# Altium schematic symbol library RF_GSM.SchLib: 12 symbols
Pins are listed as number, name and electrical type; pins without a type are passive.

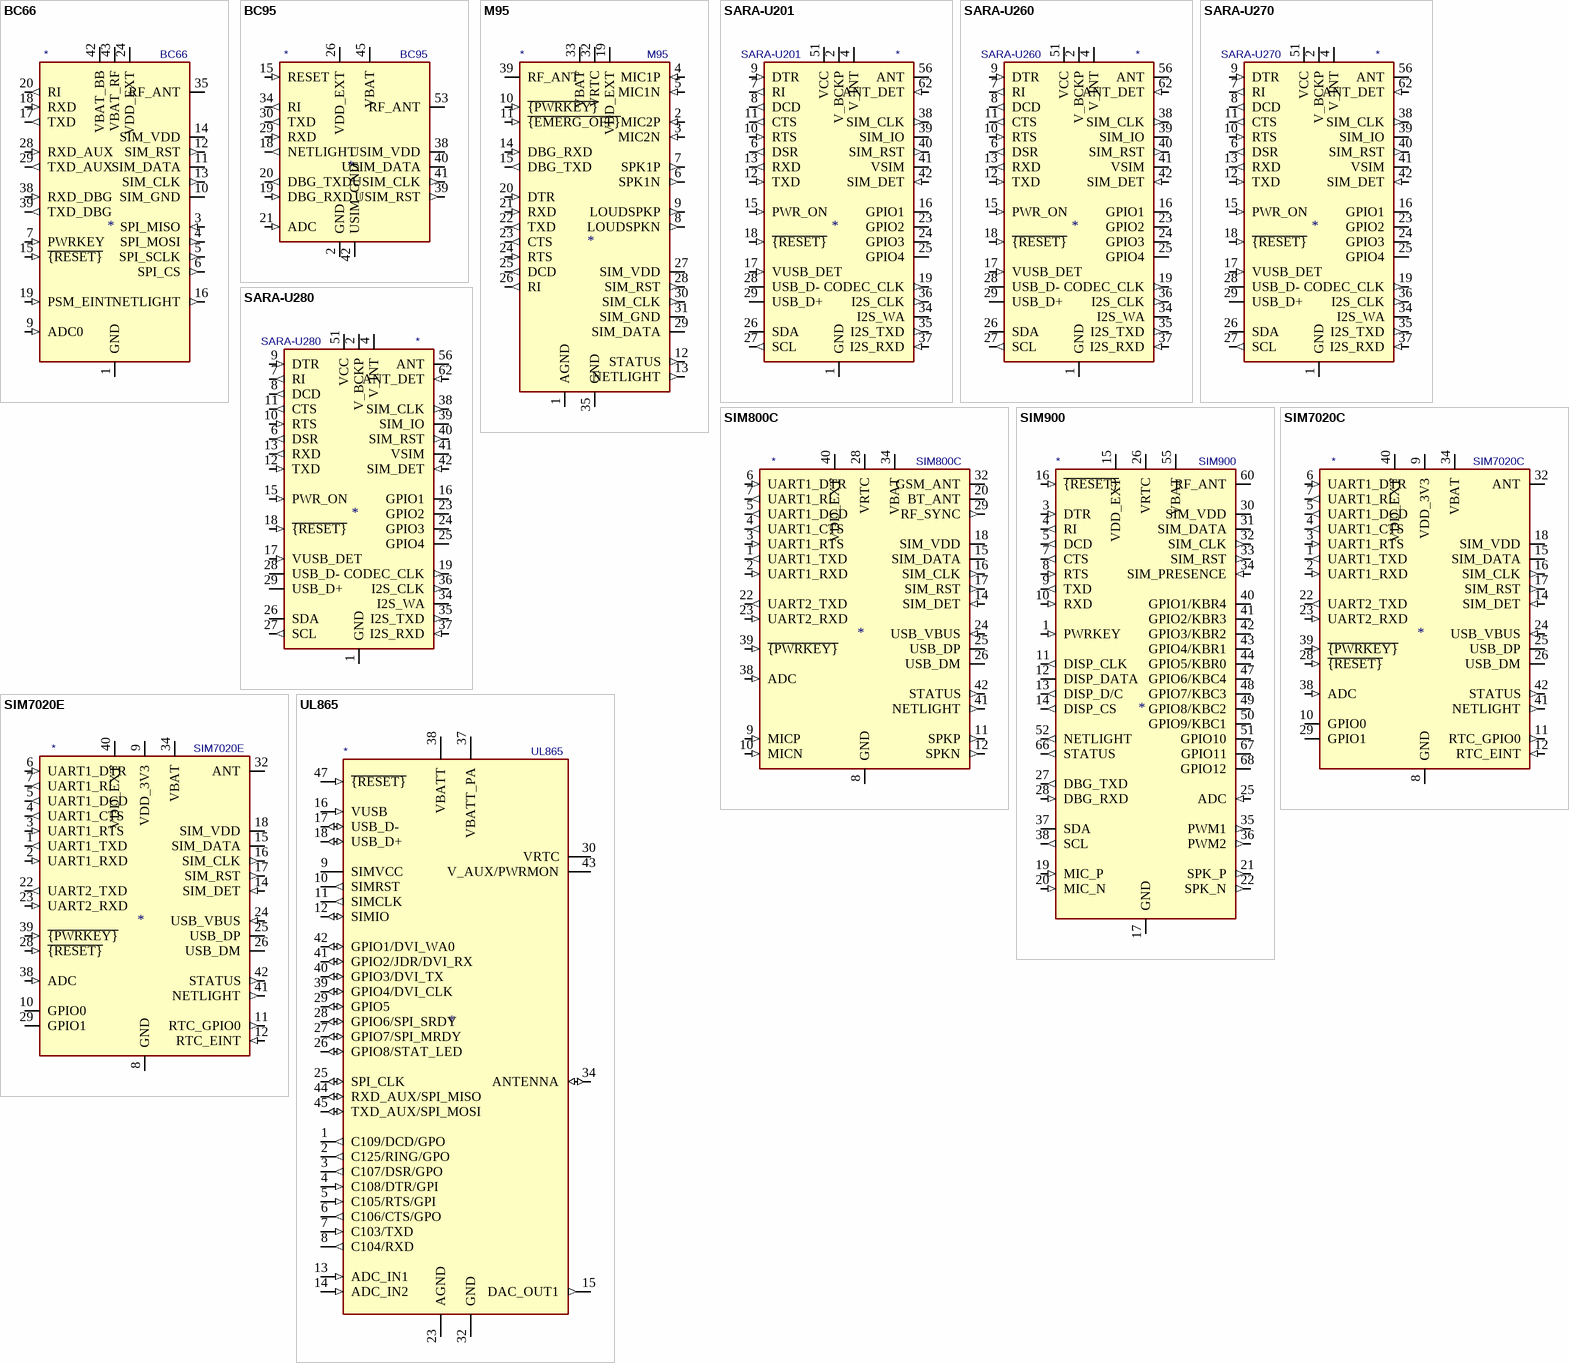
[diagram p0: symbols BC66 to UL865]

## BC66
designator *  value BC66
ki_keywords: NB-IoT Data SMS; ki_description: Quectel NB-IoT Global, AT Command Set; ki_fp_filters: Quectel*BC66*; Footprint: RF_GSM:Quectel_BC66; Supplier: https://www.quectel.com/UploadImage/Downlad/Quectel_BC66_Hardware_Design_V1.1.pdf
footprint Quectel_BC66
pins: 1 GND (power), 2 RESERVED (in) hidden, 3 SPI_MISO (in), 4 SPI_MOSI (out), 5 SPI_SCLK (out), 6 SPI_CS (out), 7 PWRKEY (in), 8 RESERVED (in) hidden, 9 ADC0 (in), 10 SIM_GND (power), 11 SIM_DATA (io), 12 SIM_RST (out), 13 SIM_CLK (out), 14 SIM_VDD (power), 15 ~{{RESET}} (in), 16 NETLIGHT (out), 17 TXD (out), 18 RXD (in), 19 PSM_EINT (in), 20 RI (out), 21 RESERVED (in) hidden, 22 RESERVED (in) hidden, 23 RESERVED (in) hidden, 24 VDD_EXT (power), 25 RESERVED (in) hidden, 26 RESERVED (in) hidden, 27 GND hidden, 28 RXD_AUX (in), 29 TXD_AUX (out), 30 RESERVED (in) hidden, 31 RESERVED (in) hidden, 32 RESERVED (in) hidden, 33 RESERVED (in) hidden, 34 GND hidden, 35 RF_ANT, 36 GND hidden, 37 GND hidden, 38 RXD_DBG (in), 39 TXD_DBG (out), 40 GND hidden, 41 GND hidden, 42 VBAT_BB (power), 43 VBAT_RF (power), 44 RESERVED (in) hidden, 45 RESERVED (in) hidden, 46 RESERVED (in) hidden, 47 RESERVED (in) hidden, 48 RESERVED (in) hidden, 49 RESERVED (in) hidden, 50 RESERVED (in) hidden, 51 RESERVED (in) hidden, 52 RESERVED (in) hidden, 53 RESERVED (in) hidden, 54 RESERVED (in) hidden, 55 RESERVED (in) hidden, 56 RESERVED (in) hidden, 57 RESERVED (in) hidden, 58 RESERVED (in) hidden

## BC95
designator *  value BC95
ki_keywords: NB-IoT GSM GPRS Quad-Band SMS; ki_description: NB-IoT, GSM Quad-Band Communication Module, GPRS, Audio Engine, AT Command Set; ki_fp_filters: Quectel?BC95*; Footprint: RF_GSM:Quectel_BC95; Supplier: https://www.quectel.com/UploadImage/Downlad/Quectel_BC95_Hardware_Design_V1.3.pdf
footprint Quectel_BC95
pins: 2 GND (power), 15 RESET (in), 18 NETLIGHT (out), 19 DBG_RXD (in), 20 DBG_TXD (out), 21 ADC (in), 26 VDD_EXT (power), 29 RXD (in), 30 TXD (out), 34 RI (out), 38 USIM_VDD (power), 39 USIM_RST (out), 40 USIM_DATA (io), 41 USIM_CLK (out), 42 USIM_GND (power), 43 GND hidden, 45 VBAT (power), 46 VBAT hidden, 47 GND hidden, 48 GND hidden, 51 GND hidden, 52 GND hidden, 53 RF_ANT, 54 GND hidden, 59 GND hidden, 60 GND hidden, 61 GND hidden, 62 GND hidden, 63 GND hidden, 64 GND hidden, 65 GND hidden, 66 GND hidden, 71 GND hidden, 72 GND hidden, 73 GND hidden, 74 GND hidden, 81 GND hidden, 82 GND hidden, 83 GND hidden, 92 GND hidden, 93 GND hidden, 94 GND hidden

## M95
designator *  value M95
ki_keywords: GSM GPRS AT SMS voice TCP/IP; ki_description: Quectel quad-band GSM/GPRS module in LCC package; ki_fp_filters: Quectel*M95*; Footprint: RF_GSM:Quectel_M95; Supplier: https://www.quectel.com/UploadImage/Downlad/M95_Hardware_Design_V1.3.pdf
footprint Quectel_M95
pins: 1 AGND (power), 2 MIC2P (in), 3 MIC2N (in), 4 MIC1P (in), 5 MIC1N (in), 6 SPK1N (out), 7 SPK1P (out), 8 LOUDSPKN (out), 9 LOUDSPKP (out), 10 ~{{PWRKEY}} (in), 11 ~{{EMERG_OFF}} (in), 12 STATUS (out), 13 NETLIGHT (out), 14 DBG_RXD (in), 15 DBG_TXD (out), 16 RESERVED (in) hidden, 17 RESERVED (in) hidden, 18 RESERVED (in) hidden, 19 VDD_EXT (power), 20 DTR (in), 21 RXD (in), 22 TXD (out), 23 CTS (out), 24 RTS (in), 25 DCD (out), 26 RI (out), 27 SIM_VDD (power), 28 SIM_RST (out), 29 SIM_DATA (io), 30 SIM_CLK (out), 31 SIM_GND (power), 32 VRTC (power), 33 VBAT (power), 34 VBAT hidden, 35 GND (power), 36 GND hidden, 37 GND hidden, 38 GND hidden, 39 RF_ANT, 40 GND hidden, 41 RESERVED (in) hidden, 42 RESERVED (in) hidden

## SARA-U201
designator *  value SARA-U201
ki_keywords: GSM HSPA 2G 3G; ki_description: Ublox HSPA GSM Quad-Band Communication Module, AT Command Set, AT Command Set, Worldwide , LGA-96; ki_fp_filters: ublox*SARA*; Footprint: RF_GSM:ublox_SARA-G3_LGA-96; Supplier: https://www.u-blox.com/sites/default/files/SARA-U2_DataSheet_(UBX-13005287).pdf
footprint ublox_SARA-G3_LGA-96
pins: 1 GND (power), 2 V_BCKP (power), 3 GND hidden, 4 V_INT (power), 5 GND hidden, 6 DSR (out), 7 RI (out), 8 DCD (out), 9 DTR (in), 10 RTS (in), 11 CTS (out), 12 TXD (in), 13 RXD (out), 14 GND hidden, 15 PWR_ON (in), 16 GPIO1 (io), 17 VUSB_DET (in), 18 ~{{RESET}} (in), 19 CODEC_CLK (out), 20 GND hidden, 21 GND hidden, 22 GND hidden, 23 GPIO2 (io), 24 GPIO3 (io), 25 GPIO4 (io), 26 SDA (io), 27 SCL (out), 28 USB_D- (io), 29 USB_D+ (io), 30 GND hidden, 31 RSVD (in) hidden, 32 GND hidden, 33 RSVD (in) hidden, 34 I2S_WA (io), 35 I2S_TXD (out), 36 I2S_CLK (out), 37 I2S_RXD (in), 38 SIM_CLK (out), 39 SIM_IO (io), 40 SIM_RST (out), 41 VSIM (power), 42 SIM_DET (in), 43 GND hidden, 44 RSVD (in) hidden, 45 RSVD (in) hidden, 46 RSVD (in) hidden, 47 RSVD (in) hidden, 48 RSVD (in) hidden, 49 RSVD (in) hidden, 50 GND hidden, 51 VCC (power), 52 VCC hidden, 53 VCC hidden, 54 GND hidden, 55 GND hidden, 56 ANT, 57 GND hidden, 58 GND hidden, 59 GND hidden, 60 GND hidden, 61 GND hidden, 62 ANT_DET (in), 63 GND hidden, 64 GND hidden, 65 GND hidden, 66 GND hidden, 67 GND hidden, 68 GND hidden, 69 GND hidden, 70 GND hidden, 71 GND hidden, 72 GND hidden, 73 GND hidden, 74 GND hidden, 75 GND hidden, 76 GND hidden, 77 GND hidden, 78 GND hidden, 79 GND hidden, 80 GND hidden, 81 GND hidden, 82 GND hidden, 83 GND hidden, 84 GND hidden, 85 GND hidden, 86 GND hidden, 87 GND hidden, 88 GND hidden, 89 GND hidden, 90 GND hidden, 91 GND hidden, 92 GND hidden, 93 GND hidden, 94 GND hidden, 95 GND hidden, 96 GND hidden

## SARA-U260
designator *  value SARA-U260
ki_keywords: GSM HSPA 2G 3G; ki_description: Ublox HSPA GSM Quad-Band Communication Module, AT Command Set, Designed for America, LGA-96; ki_fp_filters: ublox*SARA*; Footprint: RF_GSM:ublox_SARA-G3_LGA-96; Supplier: https://www.u-blox.com/sites/default/files/SARA-U2_DataSheet_(UBX-13005287).pdf
footprint ublox_SARA-G3_LGA-96
pins: 1 GND (power), 2 V_BCKP (power), 3 GND hidden, 4 V_INT (power), 5 GND hidden, 6 DSR (out), 7 RI (out), 8 DCD (out), 9 DTR (in), 10 RTS (in), 11 CTS (out), 12 TXD (in), 13 RXD (out), 14 GND hidden, 15 PWR_ON (in), 16 GPIO1 (io), 17 VUSB_DET (in), 18 ~{{RESET}} (in), 19 CODEC_CLK (out), 20 GND hidden, 21 GND hidden, 22 GND hidden, 23 GPIO2 (io), 24 GPIO3 (io), 25 GPIO4 (io), 26 SDA (io), 27 SCL (out), 28 USB_D- (io), 29 USB_D+ (io), 30 GND hidden, 31 RSVD (in) hidden, 32 GND hidden, 33 RSVD (in) hidden, 34 I2S_WA (io), 35 I2S_TXD (out), 36 I2S_CLK (out), 37 I2S_RXD (in), 38 SIM_CLK (out), 39 SIM_IO (io), 40 SIM_RST (out), 41 VSIM (power), 42 SIM_DET (in), 43 GND hidden, 44 RSVD (in) hidden, 45 RSVD (in) hidden, 46 RSVD (in) hidden, 47 RSVD (in) hidden, 48 RSVD (in) hidden, 49 RSVD (in) hidden, 50 GND hidden, 51 VCC (power), 52 VCC hidden, 53 VCC hidden, 54 GND hidden, 55 GND hidden, 56 ANT, 57 GND hidden, 58 GND hidden, 59 GND hidden, 60 GND hidden, 61 GND hidden, 62 ANT_DET (in), 63 GND hidden, 64 GND hidden, 65 GND hidden, 66 GND hidden, 67 GND hidden, 68 GND hidden, 69 GND hidden, 70 GND hidden, 71 GND hidden, 72 GND hidden, 73 GND hidden, 74 GND hidden, 75 GND hidden, 76 GND hidden, 77 GND hidden, 78 GND hidden, 79 GND hidden, 80 GND hidden, 81 GND hidden, 82 GND hidden, 83 GND hidden, 84 GND hidden, 85 GND hidden, 86 GND hidden, 87 GND hidden, 88 GND hidden, 89 GND hidden, 90 GND hidden, 91 GND hidden, 92 GND hidden, 93 GND hidden, 94 GND hidden, 95 GND hidden, 96 GND hidden

## SARA-U270
designator *  value SARA-U270
ki_keywords: GSM HSPA 2G 3G; ki_description: Ublox HSPA GSM Quad-Band Communication Module, AT Command Set, Designed for Europe, Asia and Others, LGA-96; ki_fp_filters: ublox*SARA*; Footprint: RF_GSM:ublox_SARA-G3_LGA-96; Supplier: https://www.u-blox.com/sites/default/files/SARA-U2_DataSheet_(UBX-13005287).pdf
footprint ublox_SARA-G3_LGA-96
pins: 1 GND (power), 2 V_BCKP (power), 3 GND hidden, 4 V_INT (power), 5 GND hidden, 6 DSR (out), 7 RI (out), 8 DCD (out), 9 DTR (in), 10 RTS (in), 11 CTS (out), 12 TXD (in), 13 RXD (out), 14 GND hidden, 15 PWR_ON (in), 16 GPIO1 (io), 17 VUSB_DET (in), 18 ~{{RESET}} (in), 19 CODEC_CLK (out), 20 GND hidden, 21 GND hidden, 22 GND hidden, 23 GPIO2 (io), 24 GPIO3 (io), 25 GPIO4 (io), 26 SDA (io), 27 SCL (out), 28 USB_D- (io), 29 USB_D+ (io), 30 GND hidden, 31 RSVD (in) hidden, 32 GND hidden, 33 RSVD (in) hidden, 34 I2S_WA (io), 35 I2S_TXD (out), 36 I2S_CLK (out), 37 I2S_RXD (in), 38 SIM_CLK (out), 39 SIM_IO (io), 40 SIM_RST (out), 41 VSIM (power), 42 SIM_DET (in), 43 GND hidden, 44 RSVD (in) hidden, 45 RSVD (in) hidden, 46 RSVD (in) hidden, 47 RSVD (in) hidden, 48 RSVD (in) hidden, 49 RSVD (in) hidden, 50 GND hidden, 51 VCC (power), 52 VCC hidden, 53 VCC hidden, 54 GND hidden, 55 GND hidden, 56 ANT, 57 GND hidden, 58 GND hidden, 59 GND hidden, 60 GND hidden, 61 GND hidden, 62 ANT_DET (in), 63 GND hidden, 64 GND hidden, 65 GND hidden, 66 GND hidden, 67 GND hidden, 68 GND hidden, 69 GND hidden, 70 GND hidden, 71 GND hidden, 72 GND hidden, 73 GND hidden, 74 GND hidden, 75 GND hidden, 76 GND hidden, 77 GND hidden, 78 GND hidden, 79 GND hidden, 80 GND hidden, 81 GND hidden, 82 GND hidden, 83 GND hidden, 84 GND hidden, 85 GND hidden, 86 GND hidden, 87 GND hidden, 88 GND hidden, 89 GND hidden, 90 GND hidden, 91 GND hidden, 92 GND hidden, 93 GND hidden, 94 GND hidden, 95 GND hidden, 96 GND hidden

## SARA-U280
designator *  value SARA-U280
ki_keywords: GSM HSPA 2G 3G; ki_description: Ublox HSPA GSM Quad-Band Communication Module, AT Command Set, Designed for America, LGA-96; ki_fp_filters: ublox*SARA*; Footprint: RF_GSM:ublox_SARA-G3_LGA-96; Supplier: https://www.u-blox.com/sites/default/files/SARA-U2_DataSheet_(UBX-13005287).pdf
footprint ublox_SARA-G3_LGA-96
pins: 1 GND (power), 2 V_BCKP (power), 3 GND hidden, 4 V_INT (power), 5 GND hidden, 6 DSR (out), 7 RI (out), 8 DCD (out), 9 DTR (in), 10 RTS (in), 11 CTS (out), 12 TXD (in), 13 RXD (out), 14 GND hidden, 15 PWR_ON (in), 16 GPIO1 (io), 17 VUSB_DET (in), 18 ~{{RESET}} (in), 19 CODEC_CLK (out), 20 GND hidden, 21 GND hidden, 22 GND hidden, 23 GPIO2 (io), 24 GPIO3 (io), 25 GPIO4 (io), 26 SDA (io), 27 SCL (out), 28 USB_D- (io), 29 USB_D+ (io), 30 GND hidden, 31 RSVD (in) hidden, 32 GND hidden, 33 RSVD (in) hidden, 34 I2S_WA (io), 35 I2S_TXD (out), 36 I2S_CLK (out), 37 I2S_RXD (in), 38 SIM_CLK (out), 39 SIM_IO (io), 40 SIM_RST (out), 41 VSIM (power), 42 SIM_DET (in), 43 GND hidden, 44 RSVD (in) hidden, 45 RSVD (in) hidden, 46 RSVD (in) hidden, 47 RSVD (in) hidden, 48 RSVD (in) hidden, 49 RSVD (in) hidden, 50 GND hidden, 51 VCC (power), 52 VCC hidden, 53 VCC hidden, 54 GND hidden, 55 GND hidden, 56 ANT, 57 GND hidden, 58 GND hidden, 59 GND hidden, 60 GND hidden, 61 GND hidden, 62 ANT_DET (in), 63 GND hidden, 64 GND hidden, 65 GND hidden, 66 GND hidden, 67 GND hidden, 68 GND hidden, 69 GND hidden, 70 GND hidden, 71 GND hidden, 72 GND hidden, 73 GND hidden, 74 GND hidden, 75 GND hidden, 76 GND hidden, 77 GND hidden, 78 GND hidden, 79 GND hidden, 80 GND hidden, 81 GND hidden, 82 GND hidden, 83 GND hidden, 84 GND hidden, 85 GND hidden, 86 GND hidden, 87 GND hidden, 88 GND hidden, 89 GND hidden, 90 GND hidden, 91 GND hidden, 92 GND hidden, 93 GND hidden, 94 GND hidden, 95 GND hidden, 96 GND hidden

## SIM800C
designator *  value SIM800C
ki_keywords: GSM GPRS Quad-Band SMS; ki_description: GSM Quad-Band Communication Module, GPRS, Audio Engine, AT Command Set, Bluetooth is Optional; ki_fp_filters: SIMCom*SIM800C*; Footprint: RF_GSM:SIMCom_SIM800C; Supplier: http://simcom.ee/documents/SIM800C/SIM800C_Hardware_Design_V1.05.pdf
footprint SIMCom_SIM800C
pins: 1 UART1_TXD (out), 2 UART1_RXD (in), 3 UART1_RTS (in), 4 UART1_CTS (out), 5 UART1_DCD (out), 6 UART1_DTR (in), 7 UART1_RI (out), 8 GND (power), 9 MICP (in), 10 MICN (in), 11 SPKP (out), 12 SPKN (out), 13 GND hidden, 14 SIM_DET (in), 15 SIM_DATA (io), 16 SIM_CLK (out), 17 SIM_RST (out), 18 SIM_VDD (power), 19 GND hidden, 20 BT_ANT, 21 GND hidden, 22 UART2_TXD (out), 23 UART2_RXD (in), 24 USB_VBUS (in), 25 USB_DP (io), 26 USB_DM (io), 27 GND hidden, 28 VRTC (power), 29 RF_SYNC (out), 30 GND hidden, 31 GND hidden, 32 GSM_ANT, 33 GND hidden, 34 VBAT (power), 35 VBAT hidden, 36 GND hidden, 37 GND hidden, 38 ADC (in), 39 ~{{PWRKEY}} (in), 40 VDD_EXT (power), 41 NETLIGHT (out), 42 STATUS (out)

## SIM900
designator *  value SIM900
ki_keywords: GSM GPRS Quad-Band SMS FAX; ki_description: GSM Quad-Band Communication Module, GPRS, Audio Engine, AT Command Set; ki_fp_filters: SIMCom*SIM900*; Footprint: RF_GSM:SIMCom_SIM900; Supplier: http://simcom.ee/documents/SIM900/SIM900_Hardware%20Design_V2.05.pdf
footprint SIMCom_SIM900
pins: 1 PWRKEY (in), 2 NC (in) hidden, 3 DTR (in), 4 RI (out), 5 DCD (out), 6 NC (in) hidden, 7 CTS (out), 8 RTS (in), 9 TXD (out), 10 RXD (in), 11 DISP_CLK (out), 12 DISP_DATA (io), 13 DISP_D/C (out), 14 DISP_CS (out), 15 VDD_EXT (power), 16 ~{{RESET}} (in), 17 GND (power), 18 GND hidden, 19 MIC_P (in), 20 MIC_N (in), 21 SPK_P (out), 22 SPK_N (out), 23 NC (in) hidden, 24 NC (in) hidden, 25 ADC (in), 26 VRTC (power), 27 DBG_TXD (out), 28 DBG_RXD (in), 29 GND hidden, 30 SIM_VDD (power), 31 SIM_DATA (io), 32 SIM_CLK (out), 33 SIM_RST (out), 34 SIM_PRESENCE (in), 35 PWM1 (out), 36 PWM2 (out), 37 SDA (io), 38 SCL (out), 39 GND hidden, 40 GPIO1/KBR4 (io), 41 GPIO2/KBR3 (io), 42 GPIO3/KBR2 (io), 43 GPIO4/KBR1 (io), 44 GPIO5/KBR0 (io), 45 GND hidden, 46 GND hidden, 47 GPIO6/KBC4 (io), 48 GPIO7/KBC3 (io), 49 GPIO8/KBC2 (io), 50 GPIO9/KBC1 (io), 51 GPIO10 (io), 52 NETLIGHT (out), 53 GND hidden, 54 GND hidden, 55 VBAT (power), 56 VBAT hidden, 57 VBAT hidden, 58 GND hidden, 59 GND hidden, 60 RF_ANT, 61 GND hidden, 62 GND hidden, 63 GND hidden, 64 GND hidden, 65 GND hidden, 66 STATUS (out), 67 GPIO11 (io), 68 GPIO12 (io)

## SIM7020C
designator *  value SIM7020C
ki_keywords: NB-IoT Data SMS; ki_description: NB-IoT B1/B3/B5/B8, AT Command Set; ki_fp_filters: SIMCom*SIM800C*; Footprint: RF_GSM:SIMCom_SIM800C; Supplier: https://simcom.ee/documents/SIM7020/SIM7020%20Hardware%20Design_V1.02.pdf
footprint SIMCom_SIM800C
pins: 1 UART1_TXD (out), 2 UART1_RXD (in), 3 UART1_RTS (in), 4 UART1_CTS (out), 5 UART1_DCD (out), 6 UART1_DTR (in), 7 UART1_RI (out), 8 GND (power), 9 VDD_3V3 (power), 10 GPIO0 (io), 11 RTC_GPIO0 (out), 12 RTC_EINT (in), 13 GND hidden, 14 SIM_DET (in), 15 SIM_DATA (io), 16 SIM_CLK (out), 17 SIM_RST (out), 18 SIM_VDD (power), 19 GND hidden, 20 NC (in) hidden, 21 GND hidden, 22 UART2_TXD (out), 23 UART2_RXD (in), 24 USB_VBUS (in), 25 USB_DP (io), 26 USB_DM (io), 27 GND hidden, 28 ~{{RESET}} (in), 29 GPIO1 (io), 30 GND hidden, 31 GND hidden, 32 ANT, 33 GND hidden, 34 VBAT (power), 35 VBAT hidden, 36 GND hidden, 37 GND hidden, 38 ADC (in), 39 ~{{PWRKEY}} (in), 40 VDD_EXT (power), 41 NETLIGHT (out), 42 STATUS (out)

## SIM7020E
designator *  value SIM7020E
ki_keywords: NB-IoT Data SMS; ki_description: NB-IoT B1/B3/B5/B8/B20/B28, AT Command Set; ki_fp_filters: SIMCom*SIM800C*; Footprint: RF_GSM:SIMCom_SIM800C; Supplier: https://simcom.ee/documents/SIM7020/SIM7020%20Hardware%20Design_V1.02.pdf
footprint SIMCom_SIM800C
pins: 1 UART1_TXD (out), 2 UART1_RXD (in), 3 UART1_RTS (in), 4 UART1_CTS (out), 5 UART1_DCD (out), 6 UART1_DTR (in), 7 UART1_RI (out), 8 GND (power), 9 VDD_3V3 (power), 10 GPIO0 (io), 11 RTC_GPIO0 (out), 12 RTC_EINT (in), 13 GND hidden, 14 SIM_DET (in), 15 SIM_DATA (io), 16 SIM_CLK (out), 17 SIM_RST (out), 18 SIM_VDD (power), 19 GND hidden, 20 NC (in) hidden, 21 GND hidden, 22 UART2_TXD (out), 23 UART2_RXD (in), 24 USB_VBUS (in), 25 USB_DP (io), 26 USB_DM (io), 27 GND hidden, 28 ~{{RESET}} (in), 29 GPIO1 (io), 30 GND hidden, 31 GND hidden, 32 ANT, 33 GND hidden, 34 VBAT (power), 35 VBAT hidden, 36 GND hidden, 37 GND hidden, 38 ADC (in), 39 ~{{PWRKEY}} (in), 40 VDD_EXT (power), 41 NETLIGHT (out), 42 STATUS (out)

## UL865
designator *  value UL865
ki_keywords: gsm 3g gprs umts hspa; ki_description: Telit 3G Module (GSM/GPRS/UMTS/HSPA), 3.8V, Digital voice and SMS, I2S, USB 2.0, UART, SPI. Manufacturer package; ki_fp_filters: *Telit*xL865*; Footprint: RF_GSM:Telit_xL865; Supplier: http://www.telit.com/fileadmin/user_upload/products/Downloads/3G/Telit_UL865_Hardware_User_Guide_r8.pdf
footprint Telit_xL865
pins: 1 C109/DCD/GPO (out), 2 C125/RING/GPO (out), 3 C107/DSR/GPO (out), 4 C108/DTR/GPI (in), 5 C105/RTS/GPI (in), 6 C106/CTS/GPO (out), 7 C103/TXD (in), 8 C104/RXD (out), 9 SIMVCC (power), 10 SIMRST (out), 11 SIMCLK (out), 12 SIMIO (io), 13 ADC_IN1 (in), 14 ADC_IN2 (in), 15 DAC_OUT1 (out), 16 VUSB (in), 17 USB_D- (io), 18 USB_D+ (io), 19 NC (in) hidden, 20 NC (in) hidden, 21 NC (in) hidden, 22 NC (in) hidden, 23 AGND (power), 24 NC (in) hidden, 25 SPI_CLK (io), 26 GPIO8/STAT_LED (io), 27 GPIO7/SPI_MRDY (io), 28 GPIO6/SPI_SRDY (io), 29 GPIO5 (io), 30 VRTC (power), 31 NC (in) hidden, 32 GND (power), 33 GND hidden, 34 ANTENNA (io), 35 GND hidden, 36 GND hidden, 37 VBATT_PA (power), 38 VBATT (power), 39 GPIO4/DVI_CLK (io), 40 GPIO3/DVI_TX (io), 41 GPIO2/JDR/DVI_RX (io), 42 GPIO1/DVI_WA0 (io), 43 V_AUX/PWRMON (power), 44 RXD_AUX/SPI_MISO (io), 45 TXD_AUX/SPI_MOSI (io), 46 GND hidden, 47 ~{{RESET}} (in), 48 NC (in) hidden